# EAGLE library part LT3042IMSE#PBF (library LT3042IMSE#PBF)
LINEAR TECHNOLOGY - LT3042IMSE#PBF - LDO, ADJ, 0.2A, 0V-15V, MSOP-10 Source: Datasheet <https://www.analog.com/media/en/technical-documentation/data-sheets/3042fb.pdf>
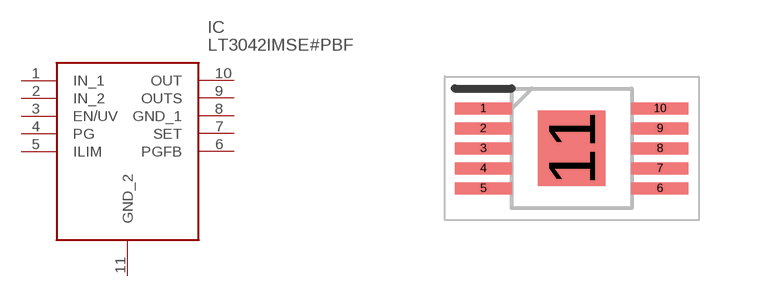
[diagram p0: symbol with the pads of SOP50P490X110-11N; footprint SOP50P490X110-11N]

Designator prefix IC

## LT3042IMSE#PBF (Description: LINEAR TECHNOLOGY - LT3042IMSE#PBF - LDO, ADJ, 0.2A, 0V-15V, MSOP-10; Height: 1.1mm; Manufacturer_Name: Analog Devices; Manufacturer_Part_Number: LT3042IMSE#PBF; Mouser_Part_Number: 584-LT3042IMSE#PBF; Mouser_Price-Stock: https://www.mouser.co.uk/ProductDetail/Analog-Devices/LT3042IMSEPBF?qs=oahfZPh6IAKNLbWsEo0jgA%3D%3D)  [SOP50P490X110-11N]
1  IN_1
2  IN_2
3  EN/UV
4  PG
5  ILIM
6  PGFB
7  SET
8  GND_1
9  OUTS
10  OUT
11  GND_2

## Footprint SOP50P490X110-11N (pad centres in mm)
MSE Package 10-Lead Plastic MSOP, Exposed Die Pad
smd 1.425 x 0.3: 1 -2.212,1; 2 -2.212,0.5; 3 -2.212,0; 4 -2.212,-0.5; 5 -2.212,-1; 6 2.212,-1; 7 2.212,-0.5; 8 2.212,0; 9 2.212,0.5; 10 2.212,1
smd 1.68 x 1.88: 11 0,0